# Altium footprint library SOT563-6.PcbLib: 1 footprints
Each footprint in its own frame and in the unit in brackets; x right, y up, seen from the top. Pads: shape width x height; smd on the part's side, far side on the other; paste and mask are expansions set on the pad; w line width, h text height; cw(c..) or ccw(c..) is an arc to the next point about the centre after c.
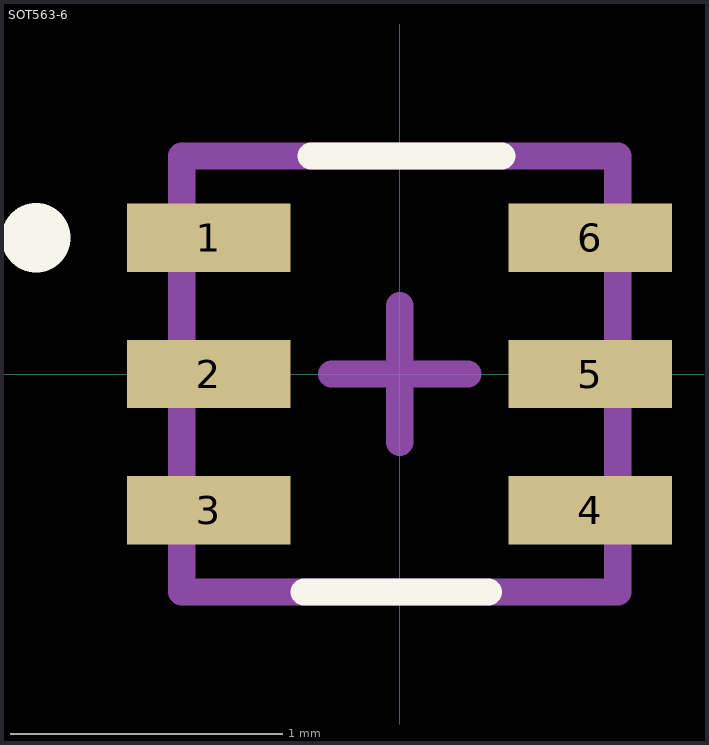
[diagram p0: the footprint, top view; thin cyan lines are the x and y axes]

## SOT563-6 [mm]
pads (6):
  rect 0.6x0.25 smd paste+0 mask+0.051: 1(-0.7,0.5) 2(-0.7,0) 3(-0.7,-0.5) 4(0.7,-0.5) 5(0.7,0) 6(0.7,0.5)
Top Overlay:
  circle w0.254: c-1.335,0.5 r0
  lines w0.1: -0.35,-0.8 0.325,-0.8 ; -0.325,0.8 0.375,0.8
Mechanical 13:
  lines w0.003: -0.8,0.8 0.8,0.8
  lines w0.1: -0.8,-0.8 -0.8,0.8 0.8,0.8 0.8,-0.8 -0.8,-0.8
Mechanical 15:
  lines w0.1: -0.25,0 0,0 ; 0,-0.25 0,0 ; 0,0.25 0,0 ; 0.25,0 0,0
3D body "SOT563-6.STEP": height 0.6, standoff 0, extent -0.8,-0.8 0.8,0.8